# EAGLE library part DF40C-20DP-0.4V(51) (library SMORSE_Chao)
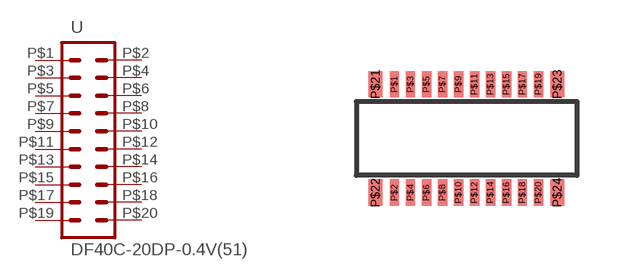
[diagram p19: symbol with the pads of DF40C-20DP-0.4V(51); footprint DF40C-20DP-0.4V(51)]

Designator prefix -

## DF40C-20DP-0.4V(51)  [DF40C-20DP-0.4V(51)]
P$1  1  pas
P$2  2  pas
P$3  3  pas
P$4  4  pas
P$5  5  pas
P$6  6  pas
P$7  7  pas
P$8  8  pas
P$9  9  pas
P$10  10  pas
P$11  11  pas
P$12  12  pas
P$13  13  pas
P$14  14  pas
P$15  15  pas
P$16  16  pas
P$17  17  pas
P$18  18  pas
P$19  19  pas
P$20  20  pas

## Footprint DF40C-20DP-0.4V(51) (pad centres in mm)
smd 0.23 x 0.66: P$1 -1.8,1.355; P$2 -1.8,-1.355; P$3 -1.4,1.355; P$4 -1.4,-1.355; P$5 -1,1.355; P$6 -1,-1.355; P$7 -0.6,1.355; P$8 -0.6,-1.355; P$9 -0.2,1.355; P$10 -0.2,-1.355; P$11 0.2,1.355; P$12 0.2,-1.355; P$13 0.6,1.355; P$14 0.6,-1.355; P$15 1,1.355; P$16 1,-1.355; P$17 1.4,1.355; P$18 1.4,-1.355; P$19 1.8,1.355; P$20 1.8,-1.355
smd 0.35 x 0.66: P$21 -2.275,1.355; P$22 -2.275,-1.355; P$23 2.275,1.355; P$24 2.275,-1.355